# Altium integrated library MergenElektronik_Microcontrollers_Atmels.IntLib: 1 symbol
Pins are listed as number, name and electrical type; pins without a type are passive.

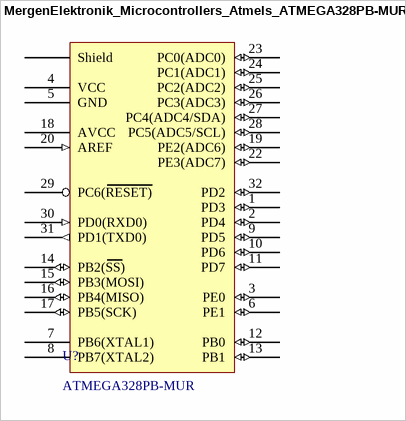
[diagram p0: symbol MergenElektronik_Microcontrollers_Atmels_ATMEGA328PB-MUR]

## MergenElektronik_Microcontrollers_Atmels_ATMEGA328PB-MUR
designator U?, comment ATMEGA328PB-MUR
Mergen Elektronik - Microcontrollers - Atmel - ATMEGA328PB-MUR; Manufacturer: Microchip Technology; Model: AVR Microcontroller; Operating Supply Voltage: 1.8V up to 5.5V; Number of I/O: 27; Speed: 20MHz; Core Size: 8-Bit; Memory Size: 32kB; Digi-Key Number: ATMEGA328PB-MURTR-ND; Manufacturer Number: ATMEGA328PB-MUR; Mounting Type: Surface Mount; Mouser Number: 556-ATMEGA328PB-MUR; Package: VQFN-32; Temperature: -40°C up to 85°C (TA); Value: ATMEGA328PB-MUR; Farnell Number: 2920857; Supplier 1: Mouser; Supplier 2: Digikey; Supplier Part Number 1: 556-ATMEGA328PB-MUR; Supplier Part Number 2: ATMEGA328PB-MURTR-ND; Ram Size: *
footprint MergenElektronik_Microcontrollers_Atmels_VQFN-32 (VQFN-32)
pins: 1 PD3 (io), 2 PD4 (io), 3 PE0 (io), 4 VCC (power), 5 GND (power), 6 PE1 (io), 7 PB6(XTAL1), 8 PB7(XTAL2), 9 PD5 (io), 10 PD6 (io), 11 PD7 (io), 12 PB0 (io), 13 PB1 (io), 14 PB2(SS) (io), 15 PB3(MOSI) (io), 16 PB4(MISO) (io), 17 PB5(SCK) (io), 18 AVCC (power), 19 PE2(ADC6) (io), 20 AREF (in), 22 PE3(ADC7) (io), 23 PC0(ADC0) (io), 24 PC1(ADC1) (io), 25 PC2(ADC2) (io), 26 PC3(ADC3) (io), 27 PC4(ADC4/SDA) (io), 28 PC5(ADC5/SCL) (io), 29 PC6(RESET), 30 PD0(RXD0) (in), 31 PD1(TXD0) (out), 32 PD2 (io), Shield (power)